# Altium footprint library AMM3742TWPR.PcbLib: 1 footprints
Each footprint in its own frame and in the unit in brackets; x right, y up, seen from the top. Pads: shape width x height; smd on the part's side, far side on the other; paste and mask are expansions set on the pad; w line width, h text height; cw(c..) or ccw(c..) is an arc to the next point about the centre after c.
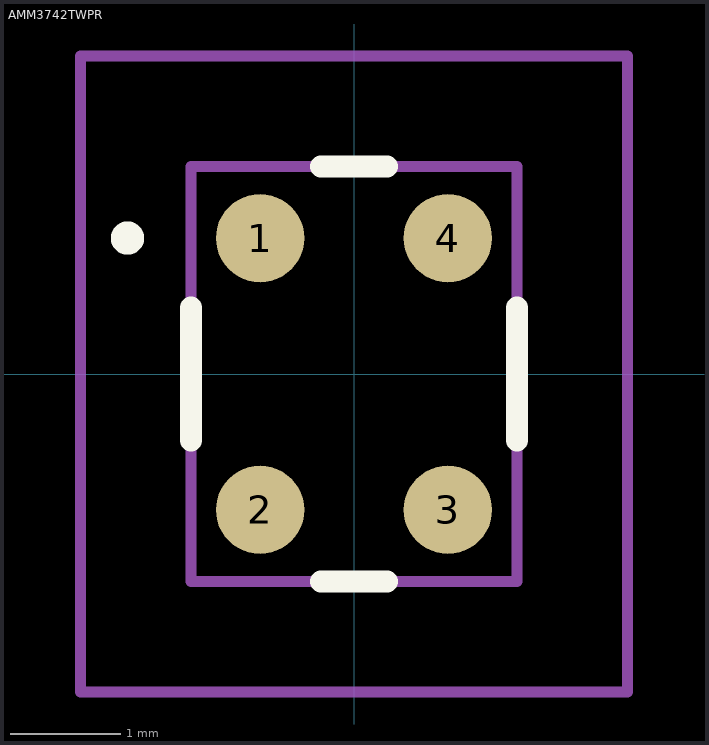
[diagram p0: the footprint, top view; thin cyan lines are the x and y axes]

## AMM3742TWPR [mm]
pads (4):
  round 0.8 smd: 1(-0.85,1.23) 2(-0.85,-1.23) 3(0.85,-1.23) 4(0.85,1.23)
Top Overlay:
  lines w0.2: -1.475,-0.6 -1.475,0.6 ; -0.3,-1.88 0.3,-1.88 ; -0.3,1.88 0.3,1.88 ; 1.475,-0.6 1.475,0.6 ; -2.1,1.23 -2.1,1.23 ; -2.1,1.23 ccw(c-2.05,1.23) -2,1.23 ; -2.1,1.23 cw(c-2.05,1.23) -2,1.23 ; -2.1,1.23 -2.1,1.23 ; -2.1,1.23 ccw(c-2.05,1.23) -2,1.23 ; -2,1.23 -2,1.23
Mechanical 15:
  lines w0.1: -1.475,-1.88 1.475,-1.88 1.475,1.88 -1.475,1.88 -1.475,-1.88
Mechanical 20:
  lines w0.1: -2.475,-2.88 2.475,-2.88 2.475,2.88 -2.475,2.88 -2.475,-2.88